# Altium schematic symbol library Prosthetic Hand Schematic Lib.SchLib: 35 symbols
Pins are listed as number, name and electrical type; pins without a type are passive.

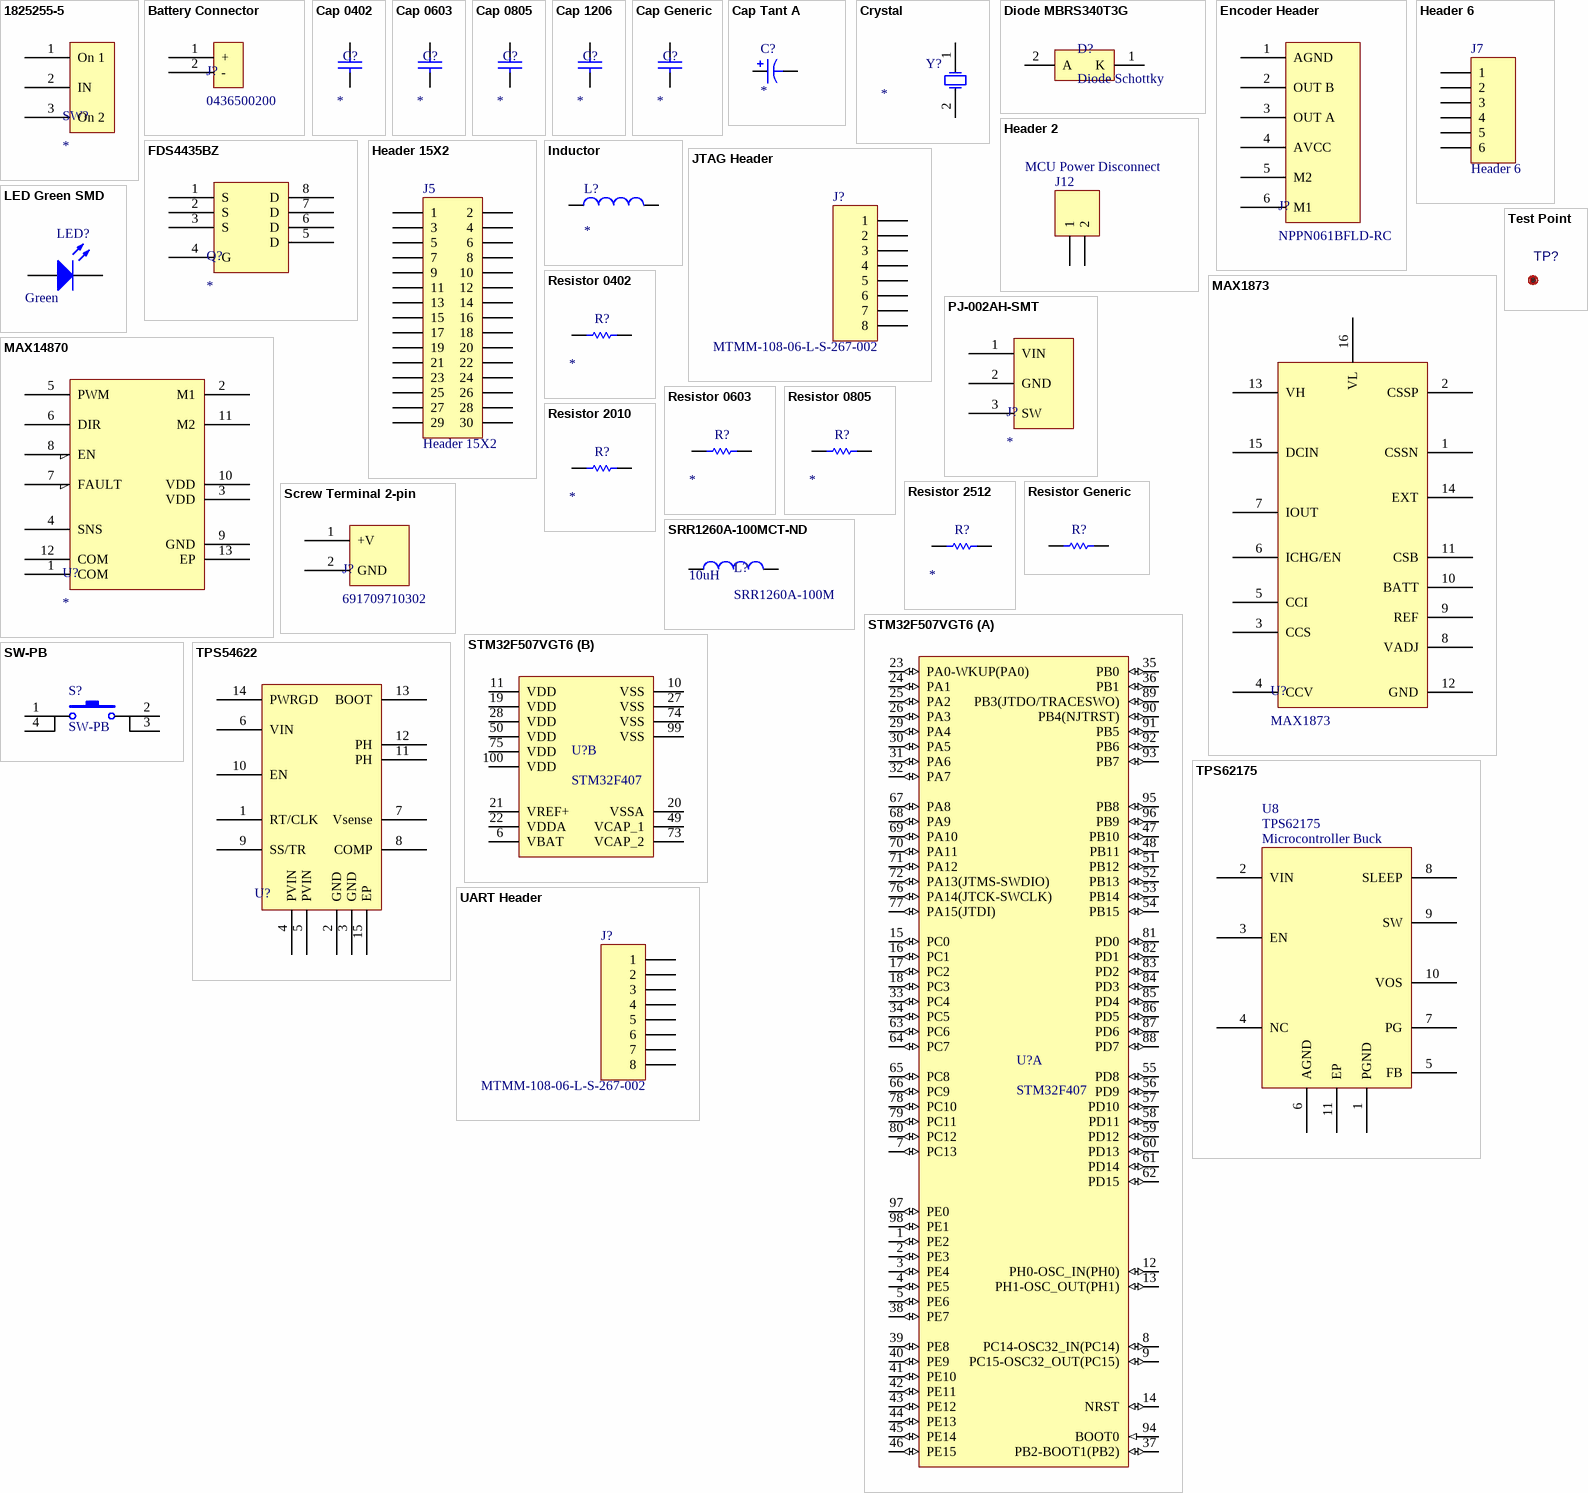
[diagram p0: symbols 1825255-5 to UART Header]

## 1825255-5
designator SW?
On/Off/On slider switch; MFG_NAME01: TE Connectivity; MFG_PN01: 1825255-5; DIGI_PN01: 450-1569-ND
footprint On/Off/On Slider Switch (TE Connectivity 1825255-5)
pins: 1 On 1, 2 IN, 3 On 2

## Battery Connector
designator J?, comment 0436500200
Battery Connector; MFG_PN01: 43650-0200; MFG_NAME01: Molex; DIGI_PN01: WM1860-ND
footprint 43650-0200 (Molex 43650-0200 for Battery Connector)
pins: 1 +, 2 -

## Cap 0402
designator C?, comment Cap  (value not drawn)
*; DIGI_PN01: *; MFG_PN01: *; MFG_NAME01: *; Footprint: 0402; Value: *
footprint 0402 Cap (Chip Capacitor, Body 1.0x0.5mm, Height 0.6mm, IPC Medium Density)
pins: 1, 2

## Cap 0603
designator C?, comment Cap  (value not drawn)
*; DIGI_PN01: *; MFG_PN01: *; MFG_NAME01: *; Footprint: 0603; Value: *
footprint 0603 Cap (Chip Capacitor, Body 1.6x0.8mm, Height 1.0mm, IPC Medium Density)
pins: 1, 2

## Cap 0805
designator C?, comment Cap  (value not drawn)
*; DIGI_PN01: *; MFG_PN01: *; MFG_NAME01: *; Footprint: 0805; Value: *
footprint 0805 Cap (Chip Capacitor, Body 2.0x1.2mm, Height 0.75mm, IPC Medium Density)
pins: 1, 2

## Cap 1206
designator C?, comment Cap  (value not drawn)
*; DIGI_PN01: *; MFG_PN01: *; MFG_NAME01: *; Footprint: 1206; Value: *
footprint 1206 Cap (Chip Capacitor, Body 3.2x1.6mm, Height 1.9mm, IPC Medium Density)
pins: 1, 2

## Cap Generic
designator C?, comment Cap  (value not drawn)
*; DIGI_PN01: *; MFG_PN01: *; MFG_NAME01: *; Footprint: *; Value: *
pins: 1, 2

## Cap Tant A
designator C?
Tantalum Cap A; Value: *; MFG_PN01: *; MFG_NAME01: *; DIGI_PN01: *
simulation model CAP (Capacitor)
signal-integrity model Cap Pol
footprint Cap Tant A (Tantalum Capacitor Package A)
pins: 1, 2
1 alternate drawing of the same symbol

## Crystal
designator Y?  (value not drawn)
32.768kHz ±20ppm Crystal 7pF 70 kOhm -40°C ~ 85°C Surface Mount 2-SMD; MFG_NAME01: *; MFG_PN01: *; DIGI_PN01: *; Frequency: *
simulation model XTAL (Spice Subcircuit)
pins: 1 OSC1, 2 OSC2

## Diode MBRS340T3G
designator D?, comment Diode Schottky
DIODE SCHOTTKY 40V 4A SMC; MFG_PN01: MBRS340T3G; MFG_NAME01: ON Semiconductor; DIGI_PN01: MBRS340T3GOSCT-ND
footprint ONSC-SMC-2-403-03_V (Molded, 2-Leads, Body 6.86x5.84mm)
pins: 1 K, 2 A

## Encoder Header
designator J?, comment NPPN061BFLD-RC
6-Pin 0; MFG_NAME01: Sullins Connector Solutions; DIGI_PN01: S5902-06-ND; MFG_PN01: NPPN061BFLD-RC
pins: 1 AGND, 2 OUT B, 3 OUT A, 4 AVCC, 5 M2, 6 M1

## FDS4435BZ
designator Q?
PMOS for charge controller; MFG_PN01: FDS4435BZ; MFG_NAME01: Fairchild Semiconductor; DIGI_PN01: FDS4435BZCT-ND
footprint SOIC-8 (SOIC, 8-Leads, Body 4.90x3.90mm, Pitch 1.27mm, IPC Medium Density)
pins: 1 S, 2 S, 3 S, 4 G, 5 D, 6 D, 7 D, 8 D

## Header 2
designator J12, comment MCU Power Disconnect
PEC02SAAN; MFG_NAME01: Sullins Connector Solutions; DIGI_PN01: S1012E-02-ND; LatestRevisionDate: 17-Jul-2002; LatestRevisionNote: Re-released for DXP Platform.; Publisher: Altium Limited; MFG_PN01: PEC02SAAN
footprint HDR1X2 (Connector; Header; 2 Position)
signal-integrity model Connector
pins: 1, 2

## Header 6
designator J7
6 Positions Header, Unshrouded Connector 0.100" (2.54mm) Through Hole Tin; MFG_PN01: 3-644456-6; MFG_NAME01: TE Connectivity; DIGI_PN01: A31116-ND
signal-integrity model Connector
footprint HDR1X6 (Connector; Header; 6 Position)
pins: 1, 2, 3, 4, 5, 6

## Header 15X2
designator J5
30 Position Receptacle Connector 0.100" (2.54mm) Through Hole Tin; MFG_PN01: SSW-115-01-T-D; DIGI_PN01: SAM1212-15-ND; MFG_NAME01: Samtec Inc
footprint HDR2X15 (Connector; Header; 15x2 Position)
signal-integrity model Connector
pins: 1, 2, 3, 4, 5, 6, 7, 8, 9, 10, 11, 12, 13, 14, 15, 16, 17, 18, 19, 20, 21, 22, 23, 24, 25, 26, 27, 28, 29, 30

## Inductor
designator L?
MFG_PN01: *; MFG_NAME01: *; DIGI_PN01: *; Value: *
footprint INDC1608L (Chip Inductor, Body 1.6x0.8mm, IPC High Density)
footprint 2029 (Chip Inductor, Body 2.0x1.2mm, IPC High Density)
footprint INDC3216 (Chip Inductor, Body 3.2x1.6mm, IPC High Density)
footprint INDC4532 (Chip Inductor, Body 4.5x3.2mm, IPC High Density)
simulation model INDUCTOR (Inductor)
signal-integrity model Inductor
pins: 1, 2

## JTAG Header
designator J?  MFG_PN01: MTMM-108-06-L-S-267-002  (hidden comment: JTAG Header)
Header 8-pin keyed for FTDI Cable; MFG_NAME01: Samtec; DIGI_PN01: *
signal-integrity model Connector
footprint 2mm_1x8_2NC (Footprint not found)
pins: 1, 2, 3, 4, 5, 6, 7, 8

## LED Green SMD
designator LED?  Color: Green  (hidden comment: LED Green SMD)
LED GREEN DIFFUSED 0603 SMD; MFG_PN01: SML-D12M8WT86; DIGI_PN01: 511-1578-1-ND; MFG_NAME01: Rohm Semiconductor; Published: 8-Jun-2000; LatestRevisionDate: 08-Jul-2005; LatestRevisionNote: Mech Layer 1 removed.; PackageReference: LED-1; Publisher: Altium Limited; PackageDescription: LED; 2 Leads
simulation model LED1 (Diode)
footprint LED 0603 (Rohm SML-D12M8WT86)
pins: 1 A, 2 K

## MAX1873
designator U?
LiIon Battery Charger; MFG_PN01: MAX1873REEE+; MFG_NAME01: Maxim Integrated; DIGI_PN01: MAX1873REEE+-ND
footprint QSOP-16 (For MAX1873)
pins: 1 CSSN, 2 CSSP, 3 CCS, 4 CCV, 5 CCI, 6 ICHG/EN, 7 IOUT, 8 VADJ, 9 REF, 10 BATT, 11 CSB, 12 GND, 13 VH, 14 EXT, 15 DCIN, 16 VL

## MAX14870
designator U?
Maxim MAX14870 Motor Driver IC; MFG_NAME01: Maxim Integrated; MFG_PN01: MAX14870ETC+T; DIGI_PN01: MAX14870ETC+CT-ND
footprint 12L TDFN 3x3 (3x3mm Dual Flat No Lead with EP)
pins: 1 COM, 2 M1, 3 VDD, 4 SNS, 5 PWM, 6 DIR, 7 FAULT, 8 EN, 9 GND, 10 VDD, 11 M2, 12 COM, 13 EP

## PJ-002AH-SMT
designator J?
DC Barrel Power Jack; MFG_PN01: PJ-002AH-SMT-TR; DIGI_PN01: CP-002AHPJCT-ND; MFG_NAME01: CUI Inc.
footprint PJ-002AH-SMT (Conn power jack SMT 2.1mm x 5.5mm)
pins: 1 VIN, 2 GND, 3 SW

## Resistor 0402
designator R?, comment Resistor  (value not drawn)
*; MFG_PN01: *; MFG_NAME01: *; Footprint: 0402; DIGI_PN01: *; Value: *
footprint 0402 Resistor (Chip Resistor, Body 1.0x0.5mm, IPC Medium Density)
pins: 1, 2

## Resistor 0603
designator R?, comment Resistor  (value not drawn)
*; MFG_PN01: *; MFG_NAME01: *; Footprint: 0603; DIGI_PN01: *; Value: *
footprint 0603 Resistor (Chip Resistor, Body 1.6x0.8mm, IPC Medium Density)
pins: 1, 2

## Resistor 0805
designator R?, comment Resistor  (value not drawn)
*; MFG_PN01: *; MFG_NAME01: *; Footprint: 0805; DIGI_PN01: *; Value: *
footprint 0805 Resistor (Chip Resistor, Body 2.0x1.3mm, IPC Medium Density)
pins: 1, 2

## Resistor 2010
designator R?, comment Resistor  (value not drawn)
*; MFG_PN01: *; MFG_NAME01: *; Footprint: 2010; DIGI_PN01: *; Value: *
footprint 2010 Resistor (Chip Resistor, Body 5.0x2.5mm, IPC Medium Density)
pins: 1, 2

## Resistor 2512
designator R?, comment Resistor  (value not drawn)
*; MFG_PN01: *; MFG_NAME01: *; Footprint: 2512; DIGI_PN01: *; Value: *
footprint 2512 Resistor (Chip Resistor, Body 6.4x3.2mm, IPC Medium Density)
pins: 1, 2

## Resistor Generic
designator R?, comment Resistor  (value not drawn)
*; MFG_PN01: *; MFG_NAME01: *; Footprint: *; Value: *; DIGI_PN01: *
pins: 1, 2

## Screw Terminal 2-pin
designator J?, comment 691709710302
Screw Terminal 2-pin; MFG_NAME01: Wurth Electronics Inc; DIGI_PN01: 1297-1108-1-ND; MFG_PN01: 691709710302
footprint 2-Pin Screw Terminal (Wurth 691709710302)
pins: 1 +V, 2 GND

## SRR1260A-100MCT-ND
designator L?, comment SRR1260A-100M  value 10uH
SRR1260A-100MCT-ND; Current Rating: 5.5A; MFG_NAME01: Bourns; MFG_PN01: SRR1260A-100M; DIGI_PN01: SRR1260A-100MCT-ND
simulation model INDUCTOR (Inductor)
signal-integrity model Inductor
footprint SRR1260 Ind (Precision Wire Wound Inductor, 2-Leads, Body 12.50x12.50mm, IPC Medium Density)
pins: 1, 2

## STM32F507VGT6
designator U?, comment STM32F407
IC MCU 32BIT 1MB FLASH 100LQFP; MFG_PN01: STM32F407VGT6; MFG_NAME01: STMicroelectronics; DIGI_PN01: 497-11605-ND; Footprint: 100-LQFP
footprint STM-LQFP100_V (Thin QFP, 100-Leads, Body 14x14mm, Pitch 0.5mm, ST Recommended)
part A pins: 1 PE2 (io) "PE2/TRACECLK/FSMC_A23/ETH_MII_TXD3/EVENTOUT", 2 PE3 (io) "PE3/TRACED0/FSMC_A19/EVENTOUT", 3 PE4 (io) "PE4/TRACED1/FSMC_A20/DCMI_D4/EVENTOUT", 4 PE5 (io) "PE5/TRACED2/FSMC_A21/TIM9_CH1/DCMI_D6/EVENTOUT", 5 PE6 (io) "PE6/TRACED3/FSMC_A22/TIM9_CH2/DCMI_D7/EVENTOUT", 7 PC13 (io) "PC13/EVENTOUT/RTC_OUT,RTC_TAMP1,RTC_TS", 8 PC14-OSC32_IN(PC14) (io) "PC14-OSC32_IN(PC14)/EVENTOUT/OSC32_IN", 9 PC15-OSC32_OUT(PC15) (io) "PC15-OSC32_OUT(PC15)/EVENTOUT/OSC32_OUT", 12 PH0-OSC_IN(PH0) (io) "PH0-OSC_IN(PH0)/EVENTOUT/OSC_IN", 13 PH1-OSC_OUT(PH1) (io) "PH1-OSC_OUT(PH1)/EVENTOUT/OSC_OUT", 14 NRST (io), 15 PC0 (io) "PC0/OTG_HS_ULPI_STP/EVENTOUT/ADC123_IN10", 16 PC1 (io) "PC1/ETH_MDC/EVENTOUT/ADC123_IN11", 17 PC2 (io) "PC2/SPI2_MISO/OTG_HS_ULPI_DIR/ETH_MII_TXD2/I2S2ext_SD/EVENTOUT/ADC123_IN12", 18 PC3 (io) "PC3/SPI2_MOSI/I2S2_SD/OTG_HS_ULPI_NXT/ETH_MII_TX_CLK/EVENTOUT/ADC123_IN13", 23 PA0-WKUP(PA0) (io) "PA0-WKUP(PA0)/USART2_CTS/UART4_TX/ETH_MII_CRS/TIM2_CH1_ETR/TIM5_CH1/TIM8_ETR/EVENTOUT/ADC123_IN0/WKUP", 24 PA1 (io) "PA1/USART2_RTS/UART4_RX/ETH_RMII_REF_CLK/ETH_MII_RX_CLK/TIM5_CH2/TIM2_CH2/EVENTOUT/ADC123_IN1", 25 PA2 (io) "PA2/USART2_TX/TIM5_CH3/TIM9_CH1/TIM2_CH3/ETH_MDIO/EVENTOUT/ADC123_IN2", 26 PA3 (io) "PA3/USART2_RX/TIM5_CH4/TIM9_CH2/TIM2_CH4/OTG_HS_ULPI_D0/ETH_MII_COL/EVENTOUT/ADC123_IN3", 29 PA4 (io) "PA4/SPI1_NSS/SPI3_NSS/USART2_CK/DCMI_HSYNC/OTG_HS_SOF/I2S3_WS/EVENTOUT/ADC12_IN4/DAC_OUT1", 30 PA5 (io) "PA5/SPI1_SCK/OTG_HS_ULPI_CK/TIM2_CH1_ETR/TIM8_CH1N/EVENTOUT/ADC12_IN5/DAC_OUT2", 31 PA6 (io) "PA6/SPI1_MISO/TIM8_BKIN/TIM13_CH1/DCMI_PIXCLK/TIM3_CH1/TIM1_BKIN/EVENTOUT/ADC12_IN6", 32 PA7 (io) "PA7/SPI1_MOSI/TIM8_CH1N/TIM14_CH1/TIM3_CH2/ETH_MII_RX_DV/TIM1_CH1N/ETH_RMII_CRS_DV/EVENTOUT/ADC12_IN7", 33 PC4 (io) "PC4/ETH_RMII_RX_D0/ETH_MII_RX_D0/EVENTOUT/ADC12_IN14", 34 PC5 (io) "PC5/ETH_RMII_RX_D1/ETH_MII_RX_D1/EVENTOUT/ADC12_IN15", 35 PB0 (io) "PB0/TIM3_CH3/TIM8_CH2N/OTG_HS_ULPI_D1/ETH_MII_RXD2/TIM1_CH2N/EVENTOUT/ADC12_IN8", 36 PB1 (io) "PB1/TIM3_CH4/TIM8_CH3N/OTG_HS_ULPI_D2/ETH_MII_RXD3/TIM1_CH3N/EVENTOUT/ADC12_IN9", 37 PB2-BOOT1(PB2) (io) "PB2-BOOT1(PB2)/EVENTOUT", 38 PE7 (io) "PE7/FSMC_D4/TIM1_ETR/EVENTOUT", 39 PE8 (io) "PE8/FSMC_D5/TIM1_CH1N/EVENTOUT", 40 PE9 (io) "PE9/FSMC_D6/TIM1_CH1/EVENTOUT", 41 PE10 (io) "PE10/FSMC_D7/TIM1_CH2N/EVENTOUT", 42 PE11 (io) "PE11/FSMC_D8/TIM1_CH2/EVENTOUT", 43 PE12 (io) "PE12/FSMC_D9/TIM1_CH3N/EVENTOUT", 44 PE13 (io) "PE13/FSMC_D10/TIM1_CH3/EVENTOUT", 45 PE14 (io) "PE14/FSMC_D11/TIM1_CH4/EVENTOUT", 46 PE15 (io) "PE15/FSMC_D12/TIM1_BKIN/EVENTOUT", 47 PB10 (io) "PB10/SPI2_SCK/I2S2_CK/I2C2_SCL/USART3_TX/OTG_HS_ULPI_D3/ETH_MII_RX_ER/TIM2_CH3/EVENTOUT", 48 PB11 (io) "PB11/I2C2_SDA/USART3_RX/OTG_HS_ULPI_D4/ETH_RMII_TX_EN/ETH_MII_TX_EN/TIM2_CH4/EVENTOUT", 51 PB12 (io) "PB12/SPI2_NSS/I2S2_WS/I2C2_SMBA/USART3_CK/TIM1_BKIN/CAN2_RX/OTG_HS_ULPI_D5/ETH_RMII_TXD0/ETH_MII_TXD0/OTG_HS_ID/EVENTOUT", 52 PB13 (io) "PB13/SPI2_SCK/I2S2_CK/USART3_CTS/TIM1_CH1N/CAN2_TX/OTG_HS_ULPI_D6/ETH_RMII_TXD1/ETH_MII_TXD1/EVENTOUT/OTG_HS_VBUS", 53 PB14 (io) "PB14/SPI2_MISO/TIM1_CH2N/TIM12_CH1/OTG_HS_DM/USART3_RTS/TIM8_CH2N/I2S2ext_SD/EVENTOUT", 54 PB15 (io) "PB15/SPI2_MOSI/I2S2_SD/TIM1_CH3N/TIM8_CH3N/TIM12_CH2/OTG_HS_DP/EVENTOUT/RTC_REFIN", 55 PD8 (io) "PD8/FSMC_D13/USART3_TX/EVENTOUT", 56 PD9 (io) "PD9/FSMC_D14/USART3_RX/EVENTOUT", 57 PD10 (io) "PD10/FSMC_D15/USART3_CK/EVENTOUT", 58 PD11 (io) "PD11/FSMC_CLE/FSMC_A16/USART3_CTS/EVENTOUT", 59 PD12 (io) "PD12/FSMC_ALE/FSMC_A17/TIM4_CH1/USART3_RTS/EVENTOUT", 60 PD13 (io) "PD13/FSMC_A18/TIM4_CH2/EVENTOUT", 61 PD14 (io) "PD14/FSMC_D0/TIM4_CH3/EVENTOUT", 62 PD15 (io) "PD15/FSMC_D1/TIM4_CH4/EVENTOUT", 63 PC6 (io) "PC6/I2S2_MCK/TIM8_CH1/SDIO_D6/USART6_TX/DCMI_D0/TIM3_CH1/EVENTOUT", 64 PC7 (io) "PC7/I2S3_MCK/TIM8_CH2/SDIO_D7/USART6_RX/DCMI_D1/TIM3_CH2/EVENTOUT", 65 PC8 (io) "PC8/TIM8_CH3/SDIO_D0/TIM3_CH3/USART6_CK/DCMI_D2/EVENTOUT", 66 PC9 (io) "PC9/I2S_CKIN/MCO2/TIM8_CH4/SDIO_D1/I2C3_SDA/DCMI_D3/TIM3_CH4/EVENTOUT", 67 PA8 (io) "PA8/MCO1/USART1_CK/TIM1_CH1/I2C3_SCL/OTG_FS_SOF/EVENTOUT", 68 PA9 (io) "PA9/USART1_TX/TIM1_CH2/I2C3_SMBA/DCMI_D0/EVENTOUT/OTG_FS_VBUS", 69 PA10 (io) "PA10/USART1_RX/TIM1_CH3/OTG_FS_ID/DCMI_D1/EVENTOUT", 70 PA11 (io) "PA11/USART1_CTS/CAN1_RX/TIM1_CH4/OTG_FS_DM/EVENTOUT", 71 PA12 (io) "PA12/USART1_RTS/CAN1_TX/TIM1_ETR/OTG_FS_DP/EVENTOUT", 72 PA13(JTMS-SWDIO) (io) "PA13(JTMS-SWDIO)/JTMS-SWDIO/EVENTOUT", 76 PA14(JTCK-SWCLK) (io) "PA14(JTCK-SWCLK)/JTCK-SWCLK/EVENTOUT", 77 PA15(JTDI) (io) "PA15(JTDI)/JTDI/SPI3_NSS/I2S3_WS/TIM2_CH1_ETR/SPI1_NSS/EVENTOUT", 78 PC10 (io) "PC10/SPI3_SCK/I2S3_CK/UART4_TX/SDIO_D2/DCMI_D8/USART3_TX/EVENTOUT", 79 PC11 (io) "PC11/UART4_RX/SPI3_MISO/SDIO_D3/DCMI_D4/USART3_RX/I2S3ext_SD/EVENTOUT", 80 PC12 (io) "PC12/UART5_TX/SDIO_CK/DCMI_D9/SPI3_MOSI/I2S3_SD/USART3_CK/EVENTOUT", 81 PD0 (io) "PD0/FSMC_D2/CAN1_RX/EVENTOUT", 82 PD1 (io) "PD1/FSMC_D3/CAN1_TX/EVENTOUT", 83 PD2 (io) "PD2/TIM3_ETR/UART5_RX/SDIO_CMD/DCMI_D11/EVENTOUT", 84 PD3 (io) "PD3/FSMC_CLK/USART2_CTS/EVENTOUT", 85 PD4 (io) "PD4/FSMC_NOE/USART2_RTS/EVENTOUT", 86 PD5 (io) "PD5/FSMC_NWE/USART2_TX/EVENTOUT", 87 PD6 (io) "PD6/FSMC_NWAIT/USART2_RX/EVENTOUT", 88 PD7 (io) "PD7/USART2_CK/FSMC_NE1/FSMC_NCE2/EVENTOUT", 89 PB3(JTDO/TRACESWO) (io) "PB3(JTDO/TRACESWO)/JTDO/TRACESWO/SPI3_SCK/I2S3_CK/TIM2_CH2/SPI1_SCK/EVENTOUT", 90 PB4(NJTRST) (io) "PB4(NJTRST)/NJTRST/SPI3_MISO/TIM3_CH1/SPI1_MISO/I2S3ext_SD/EVENTOUT", 91 PB5 (io) "PB5/I2C1_SMBA/CAN2_RX/OTG_HS_ULPI_D7/ETH_PPS_OUT/TIM3_CH2/SPI1_MOSI/SPI3_MOSI/DCMI_D10/I2S3_SD/EVENTOUT", 92 PB6 (io) "PB6/I2C1_SCL/TIM4_CH1/CAN2_TX/DCMI_D5/USART1_TX/EVENTOUT", 93 PB7 (io) "PB7/I2C1_SDA/FSMC_NL/DCMI_VSYNC/USART1_RX/TIM4_CH2/EVENTOUT", 94 BOOT0 (in) "BOOT0/VPP", 95 PB8 (io) "PB8/TIM4_CH3/SDIO_D4/TIM10_CH1/DCMI_D6/ETH_MII_TXD3/I2C1_SCL/CAN1_RX/EVENTOUT", 96 PB9 (io) "PB9/SPI2_NSS/I2S2_WS/TIM4_CH4/TIM11_CH1/SDIO_D5/DCMI_D7/I2C1_SDA/CAN1_TX/EVENTOUT", 97 PE0 (io) "PE0/TIM4_ETR/FSMC_NBL0/DCMI_D2/EVENTOUT", 98 PE1 (io) "PE1/FSMC_NBL1/DCMI_D3/EVENTOUT"
part B pins: 6 VBAT (power), 10 VSS (power), 11 VDD (power), 19 VDD (power), 20 VSSA (power), 21 VREF+ (power), 22 VDDA (power), 27 VSS (power), 28 VDD (power), 49 VCAP_1 (power), 50 VDD (power), 73 VCAP_2 (power), 74 VSS (power), 75 VDD (power), 99 VSS (power), 100 VDD (power)

## SW-PB
designator S?
Switch; Published: 24-Mar-1999; LatestRevisionDate: 17-Jul-2002; LatestRevisionNote: Re-released for DXP Platform.; PackageReference: SPST-2; Publisher: Altium Limited; PackageDescription: Switch; 2 Leads
footprint MJTP1138 Switch
pins: 1, 2, 3, 4

## Test Point
designator TP?  (value not drawn)
TEST POINT PAD .035 SMT; MFG_PN01: TEST POINT PAD .035 SMT; MFG_NAME01: TEST POINT PAD .035 SMT; DNP: DNP
footprint Testpoint_70 (10 mil testpoint)
pins: 1 M80

## TPS54622
designator U?  (value not drawn)
Motor Buck Converter; MFG_PN01: TPS54622RHLR; MFG_NAME01: Texas Instruments; DIGI_PN01: 296-29204-1-ND
footprint S-PVQFN-N14
pins: 1 RT/CLK, 2 GND, 3 GND, 4 PVIN, 5 PVIN, 6 VIN, 7 Vsense, 8 COMP, 9 SS/TR, 10 EN, 11 PH, 12 PH, 13 BOOT, 14 PWRGD, 15 EP

## TPS62175
designator U8  Desc: Microcontroller Buck
IC REG BUCK BST 5V 0.8A 10WSON; MFG_NAME01: Texas Instruments; MFG_PN01: TPS62175DQCR; DIGI_PN01: 296-39451-1-ND; Case-EIA: 10-WFDFN
footprint R-PWSON-N10
pins: 1 PGND, 2 VIN, 3 EN, 4 NC, 5 FB, 6 AGND, 7 PG, 8 SLEEP, 9 SW, 10 VOS, 11 EP

## UART Header
designator J?  MFG_PN01: MTMM-108-06-L-S-267-002  (hidden comment: UART Header)
Header, 8-Pin, 2mm, pin 2 keyed; MFG_NAME01: Samtec
signal-integrity model Connector
footprint 2mm_1x8_2NC
pins: 1, 2, 3, 4, 5, 6, 7, 8